# Altium schematic symbol library SCH - FET - P-CH - INFINEON BSO080P03SHXUMA1.SCHLIB: 1 symbol
Pins are listed as number, name and electrical type; pins without a type are passive.

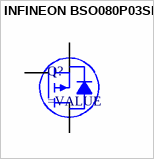
[diagram p0: symbol INFINEON BSO080P03SH]

## INFINEON BSO080P03SH
designator Q?
pins: D, G, S